# EAGLE library part LTC4150CMS (library LTC4150CMS-2)
Check availability <https://pricing.snapeda.com/parts/LTC4150CMS/Analog%20Devices%2C%20Inc./view-part?ref=eda>
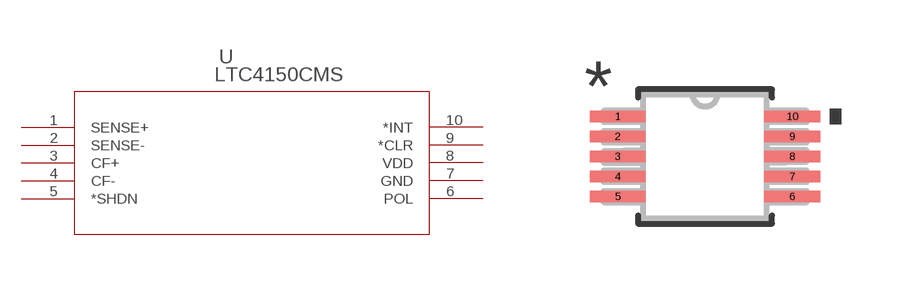
[diagram p0: symbol with the pads of MSOP-10_MS; footprint MSOP-10_MS]

Designator prefix U

## LTC4150CMS (Availability: In Stock; Description: Gas Gauge Lead-Acid/Li-Ion/Li-Pol/NiCd/NiMH Automotive 10-Pin MSOP; MF: Analog Devices, Inc.; MP: LTC4150CMS; Package: None; Price: None; Purchase-URL: https://pricing.snapeda.com/search/part/LTC4150CMS/?ref=eda)  [MSOP-10_MS]
1  SENSE+  in
2  SENSE-  in
3  CF+  in
4  CF-  in
5  *SHDN  in
6  POL  out
7  GND  pwr
8  VDD  pwr
9  *CLR  in
10  *INT  out

## Footprint MSOP-10_MS (pad centres in mm)
smd 1.397 x 0.279: 1 -2.184,1.001; 2 -2.184,0.5; 3 -2.184,0; 4 -2.184,-0.5; 5 -2.184,-1.001; 6 2.184,-1.001; 7 2.184,-0.5; 8 2.184,0; 9 2.184,0.5; 10 2.184,1.001